# Altium schematic symbol library URB24_LD-60W(H)R3.SchLib: 1 symbol
Pins are listed as number, name and electrical type; pins without a type are passive.

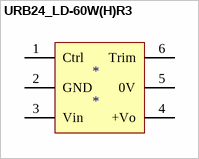
[diagram p0: symbol URB24_LD-60W(H)R3]

## URB24_LD-60W(H)R3
designator *
pins: 1 Ctrl, 2 GND, 3 Vin, 4 +Vo, 5 0V, 6 Trim